# EAGLE library part HIP4086 (library Gibbot v4)
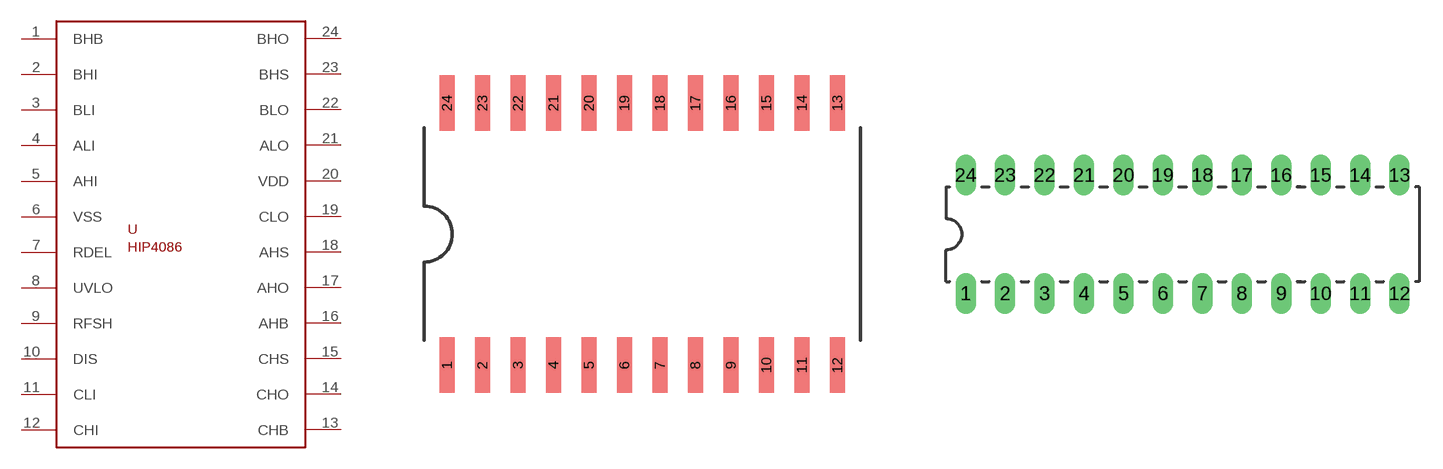
[diagram p4: symbol with the pads of SOIC24-W; footprints SOIC24-W, DIL24]

Designator prefix -

## HIP4086  [SOIC24-W]
1  BHB
2  BHI
3  BLI
4  ALI
5  AHI
6  VSS
7  RDEL
8  UVLO
9  RFSH
10  DIS
11  CLI
12  CHI
13  CHB
14  CHO
15  CHS
16  AHB
17  AHO
18  AHS
19  CLO
20  VDD
21  ALO
22  BLO
23  BHS
24  BHO

## HIP4086DIL24  [DIL24]
Pads as for SOIC24-W

## Footprint SOIC24-W (pad centres in mm)
smd 0.533 x 1.981: 1 -6.985,-4.686; 2 -5.715,-4.686; 3 -4.445,-4.686; 4 -3.175,-4.686; 5 -1.905,-4.686; 6 -0.635,-4.686; 7 0.635,-4.686; 8 1.905,-4.686; 9 3.175,-4.686; 10 4.445,-4.686; 11 5.715,-4.686; 12 6.985,-4.686; 13 6.985,4.686; 14 5.715,4.686; 15 4.445,4.686; 16 3.175,4.686; 17 1.905,4.686; 18 0.635,4.686; 19 -0.635,4.686; 20 -1.905,4.686; 21 -3.175,4.686; 22 -4.445,4.686; 23 -5.715,4.686; 24 -6.985,4.686

## Footprint DIL24 (pad centres in mm)
drill 0.813 long: 1 -13.97,-3.81; 2 -11.43,-3.81; 3 -8.89,-3.81; 4 -6.35,-3.81; 5 -3.81,-3.81; 6 -1.27,-3.81; 7 1.27,-3.81; 8 3.81,-3.81; 9 6.35,-3.81; 10 8.89,-3.81; 11 11.43,-3.81; 12 13.97,-3.81; 13 13.97,3.81; 14 11.43,3.81; 15 8.89,3.81; 16 6.35,3.81; 17 3.81,3.81; 18 1.27,3.81; 19 -1.27,3.81; 20 -3.81,3.81; 21 -6.35,3.81; 22 -8.89,3.81; 23 -11.43,3.81; 24 -13.97,3.81